# Altium integrated library BB Communication Transceiver.IntLib: 1 symbol
Pins are listed as number, name and electrical type; pins without a type are passive.

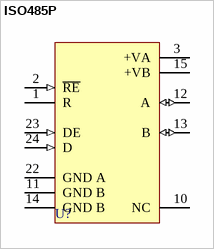
[diagram p0: symbol ISO485P]

## ISO485P
designator U?
Isolated RS-485 Differential Bus Transceiver; Note: No pins present at positions 4 to 9 and 16 to 21. Pin 10 must be left unconnected.; Published: 8-Jun-2000; LatestRevisionDate: 06-Jun-2005; LatestRevisionNote: Stylized 3D Model Added.; DatasheetVersion: May-1995; PackageVersion: revJ; PackageReference: 243-1J; Publisher: Altium Limited; PackageDescription: DIP; 24 Leads (12 Absent); Row Spacing 7.62 mm; Pitch 2.54 mm; ComponentLink1Description: Manufacturer Link; ComponentLink1URL: http://www.ti.com/; ComponentLink2Description: Datasheet; ComponentLink2URL: http://www-s.ti.com/sc/ds/ISO485.pdf
footprint 243-1J (DIP; 24 Leads (12 Absent); Row Spacing 7.62 mm; Pitch 2.54 mm)
3D model 243-1J (DIP; 24 Leads (12 Absent); Row Spacing 7.62 mm; Pitch 2.54 mm)
pins: 1 R (hiz), 2 ~{RE} (in), 3 +VA (power), 10 NC, 11 GND B (power), 12 A (io), 13 B (io), 14 GND B (power), 15 +VB (power), 22 GND A (power), 23 DE (in), 24 D (in)